# EAGLE library part ATTINY841 (library ic)
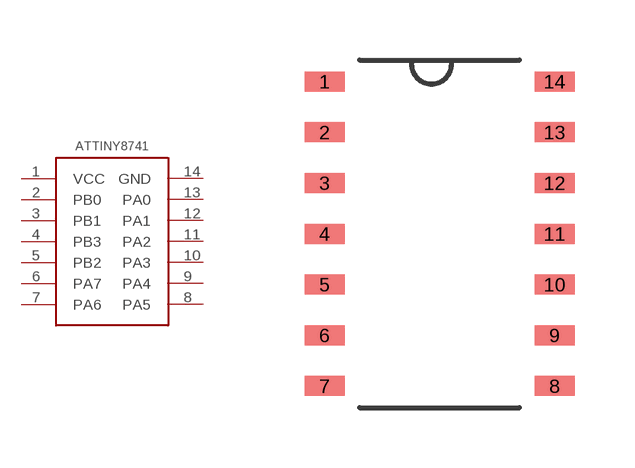
[diagram p1: symbol with the pads of SOIC14; footprint SOIC14]

Designator prefix U

## ATTINY841  [SOIC14]
1  VCC
2  PB0
3  PB1
4  PB3
5  PB2
6  PA7
7  PA6
8  PA5
9  PA4
10  PA3
11  PA2
12  PA1
13  PA0
14  GND

## Footprint SOIC14 (pad centres in mm)
smd 1 x 0.5: 1 -2.875,3.81; 2 -2.875,2.54; 3 -2.875,1.27; 4 -2.875,0; 5 -2.875,-1.27; 6 -2.875,-2.54; 7 -2.875,-3.81; 8 2.875,-3.81; 9 2.875,-2.54; 10 2.875,-1.27; 11 2.875,0; 12 2.875,1.27; 13 2.875,2.54; 14 2.875,3.81